# Altium footprint library C_1nF.PcbLib: 1 footprints
Each footprint in its own frame and in the unit in brackets; x right, y up, seen from the top. Pads: shape width x height; smd on the part's side, far side on the other; paste and mask are expansions set on the pad; w line width, h text height; cw(c..) or ccw(c..) is an arc to the next point about the centre after c.
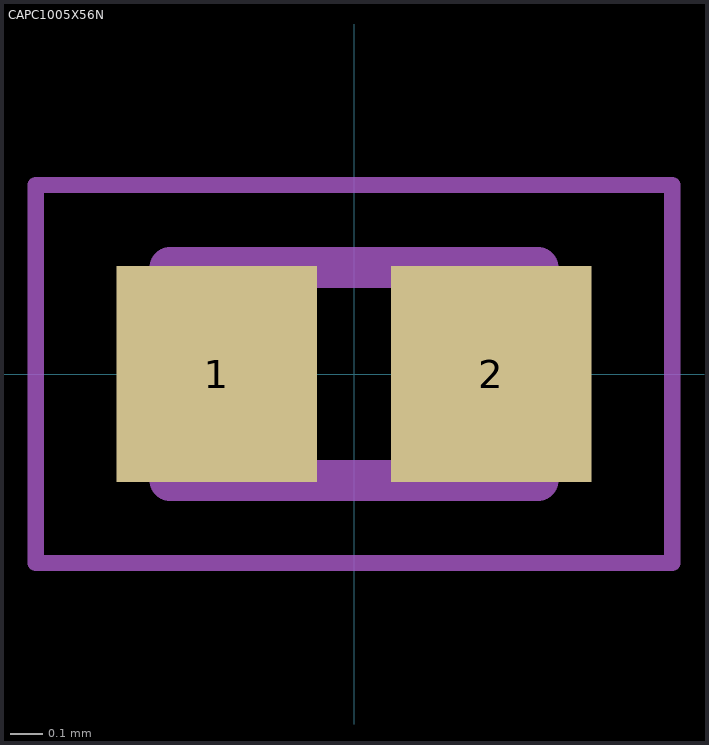
[diagram p0: the footprint, top view; thin cyan lines are the x and y axes]

## CAPC1005X56N [mm]
pads (2):
  rect 0.62x0.67 smd: 1(-0.425,0) 2(0.425,0)
Mechanical 13:
  lines w0.127: -0.57,-0.33 -0.57,0.33 0.57,0.33 0.57,-0.33 -0.57,-0.33
Mechanical 15:
  lines w0.05: -0.985,-0.585 -0.985,0.585 0.985,0.585 0.985,-0.585 -0.985,-0.585
3D body "condensador.STEP": height 0.25, standoff -0.25, extent -0.5,-0.254 0.5,0.296